# EAGLE library part ADMP621ACEZ-RL7 (library InvenSense-INMP621ACEZ-R7)
IC, MICROPHONE, 2 CH , LGA_CAV-5
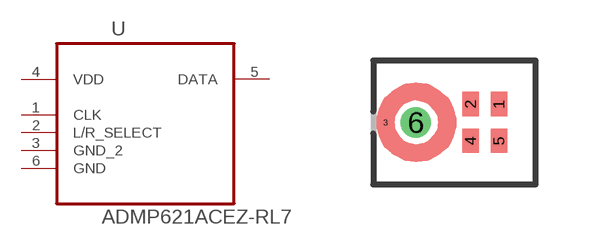
[diagram p0: symbol with the pads of ADI_ADMP521A; footprint ADI_ADMP521A]

Designator prefix U

## ADMP621ACEZ-RL7 (MPN: ADMP621ACEZ-RL7; OC_FARNELL: 2361525; OC_NEWARK: 08X1061; PACKAGE: 5LGA; SUPPLIER: ANALOG DEVICES)  [ADI_ADMP521A]
1  CLK  in
2  L/R_SELECT  pas
3  GND_2  pas
4  VDD  pwr
5  DATA  out
6  GND  pas

## Footprint ADI_ADMP521A (pad centres in mm)
smd 0.406 x 0.61: 1 1.118,0.457; 2 0.406,0.457; 4 0.406,-0.457; 5 1.118,-0.457
smd 0.051 x 0.051: 3 -1.727,0
drill 0.254: 6 -0.965,0